# EAGLE library part CC3220SF-JTAG-HAT (library trainlib)
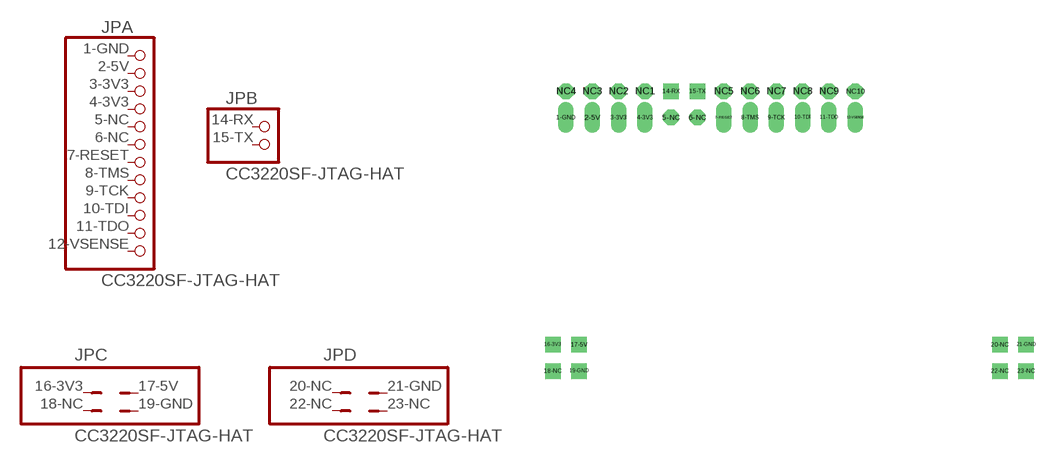
[diagram p31: symbol with the pads of JTAG-LAUNCHPAD-3220SF; footprint JTAG-LAUNCHPAD-3220SF]

Designator prefix JP; gates A=PINHD12 C=JUMPER-2X2 B=PINHD2 D=JUMPER-2X2

## CC3220SF-JTAG-HAT  [JTAG-LAUNCHPAD-3220SF]
1-GND  A:1  pas
2-5V  A:2  pas
3-3V3  A:3  pas
4-3V3  A:4  pas
5-NC  A:5  pas
6-NC  A:6  pas
7-RESET  A:7  pas
8-TMS  A:8  pas
9-TCK  A:9  pas
10-TDI  A:10  pas
11-TDO  A:11  pas
12-VSENSE  A:12  pas
14-RX  B:1  pas
15-TX  B:2  pas
16-3V3  C:1  pas
17-5V  C:2  pas
18-NC  C:3  pas
19-GND  C:4  pas
20-NC  D:1  pas
21-GND  D:2  pas
22-NC  D:3  pas
23-NC  D:4  pas

## Footprint JTAG-LAUNCHPAD-3220SF (pad centres in mm)
drill 1 long: 1-GND 0,0; 2-5V 2.54,0; 3-3V3 5.08,0; 4-3V3 7.62,0; 7-RESET 15.24,0; 8-TMS 17.78,0; 9-TCK 20.32,0; 10-TDI 22.86,0; 11-TDO 25.4,0; 12-VSENSE 27.94,0
drill 1 octagon: 5-NC 10.16,0; 6-NC 12.7,0; NC1 7.62,2.54; NC2 5.08,2.54; NC3 2.54,2.54; NC4 0,2.54; NC5 15.24,2.54; NC6 17.78,2.54; NC7 20.32,2.54; NC8 22.86,2.54; NC9 25.4,2.54; NC10 27.94,2.54
drill 1 square: 14-RX 10.16,2.54; 15-TX 12.7,2.54; 16-3V3 -1.27,-21.971; 17-5V 1.27,-21.971; 18-NC -1.27,-24.511; 19-GND 1.27,-24.511; 20-NC 41.91,-21.971; 21-GND 44.45,-21.971; 22-NC 41.91,-24.511; 23-NC 44.45,-24.511